# Altium footprint library ftmodul.PcbLib: 1 footprints
Each footprint in its own frame and in the unit in brackets; x right, y up, seen from the top. Pads: shape width x height; smd on the part's side, far side on the other; paste and mask are expansions set on the pad; w line width, h text height; cw(c..) or ccw(c..) is an arc to the next point about the centre after c.
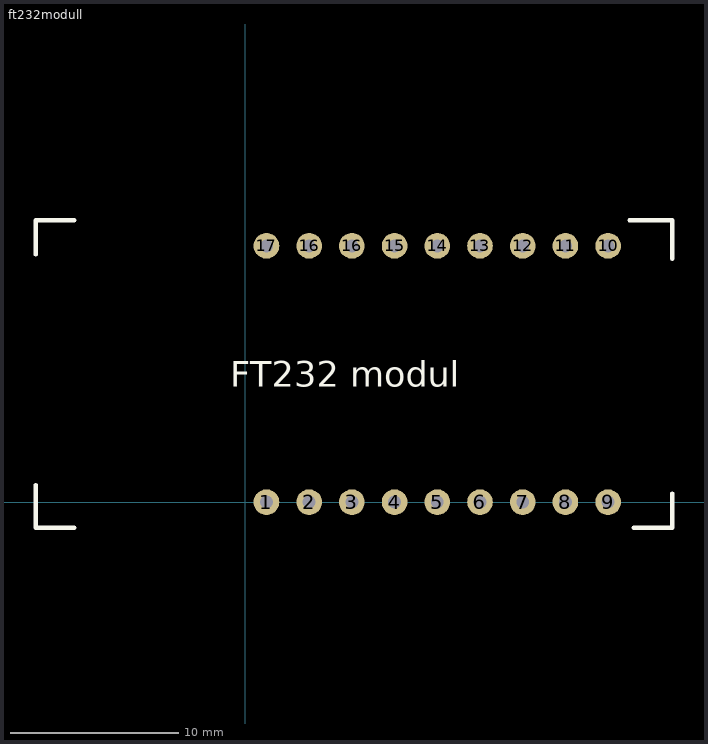
[diagram p0: the footprint, top view; thin cyan lines are the x and y axes]

## ft232modull [mil]
pads (18):
  round 60 hole 30: 1(50,0) 2(150,0) 3(250,0) 4(350,0) 5(450,0) 6(550,0) 7(650,0) 8(750,0) 9(850,0) 10(850,600) 11(750,600) 12(650,600) 13(550,600) 14(450,600) 15(350,600) 16(150,600) 16(250,600) 17(50,600)
Top Overlay:
  lines w10: -490,40 -490,-60 -400,-60 ; -490,580 -490,660 -400,660 ; 900,660 1000,660 1000,570 ; 910,-60 1000,-60 1000,20
  text "FT232 modul" at -35,270 h60
3D body "User Library-USB to TTL Serial Converter.STEP": height 670.87, standoff -46.85, extent -489.17,-62.2 999.02,662.2